# Altium schematic symbol library DISCRETE.SchLib: 16 symbols
Pins are listed as number, name and electrical type; pins without a type are passive.

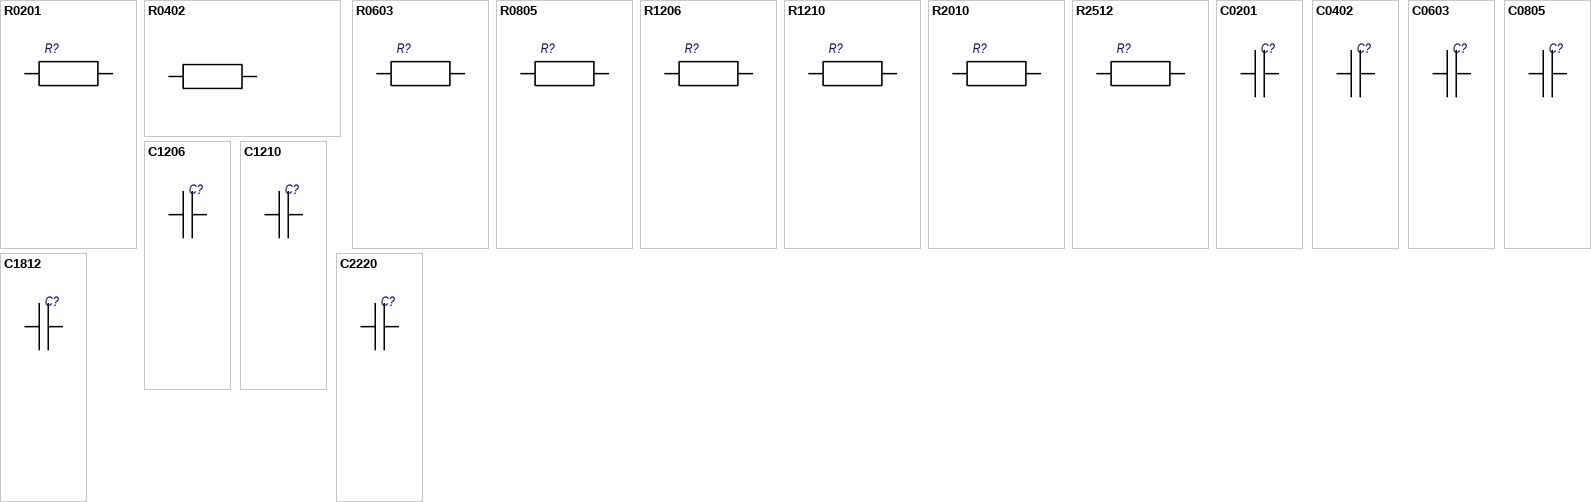
[diagram p0: symbols R0201 to С2220]

## R0201
designator R?
Чип-резистор 0201; Value: *
footprint R0201
pins: 1, 2

## R0402
designator R?
Чип-резистор 0402; Value: *
footprint R0402
footprint R0402_IPC
pins: 1, 2

## R0603
designator R?
Чип-резистор 0603; Value: *
footprint R0603
footprint R0603_IPC
pins: 1, 2

## R0805
designator R?
Чип-резистор 0805; Value: *
footprint R0805
footprint R0805_IPC
pins: 1, 2

## R1206
designator R?
Чип-резистор 1206; Value: *
footprint R1206
footprint R1206_IPC
pins: 1, 2

## R1210
designator R?
Чип-резистор 1210; Value: *
footprint R1210
footprint R1210_IPC
pins: 1, 2

## R2010
designator R?
Чип-резистор 2010; Value: *
footprint R2010
footprint R2010_IPC
pins: 1, 2

## R2512
designator R?
Чип-резистор 2512; Value: *
footprint R2512
footprint R2512_IPC
pins: 1, 2

## С0201
designator С?
Чип-конденсатор 0201; Value: *
footprint C0201 (Чип-конденсатор 0201)
pins: 1, 2

## С0402
designator С?
Чип-конденсатор 0402; Value: *
footprint C0402 (Чип-конденсатор 0402)
footprint С0402_IPC (Чип-конденсатор 0402)
pins: 1, 2

## С0603
designator С?
Чип-конденсатор 0603; Value: *
footprint C0603 (Чип-конденсатор 0603)
footprint С0603_IPC (Чип-конденсатор 0603)
pins: 1, 2

## С0805
designator С?
Чип-конденсатор 0805; Value: *
footprint C0805 (Чип-конденсатор 0805)
footprint С0805_IPC (Чип-конденсатор 0805)
pins: 1, 2

## С1206
designator С?
Чип-конденсатор 1206; Value: *
footprint C1206 (Чип-конденсатор 1206)
footprint С1206_IPC (Чип-онденсатор 1206)
pins: 1, 2

## С1210
designator С?
Чип-конденсатор 1210; Value: *
footprint C1210 (Чип-конденсатор 1210)
footprint С1210_IPC (Чип-конденсатор 1210)
pins: 1, 2

## С1812
designator С?
Чип-конденсатор 1812; Value: *
footprint C1812 (Чип-конденсатор 1812)
footprint С1812_IPC (Чип-конденсатор 1812)
pins: 1, 2

## С2220
designator С?
Чип-конденсатор 2220; Value: *
footprint C2220 (Чип-конденсатор 2220)
pins: 1, 2